# Altium integrated library 100uF25VAEC.IntLib: 1 symbol
Pins are listed as number, name and electrical type; pins without a type are passive.

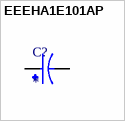
[diagram p0: symbol EEEHA1E101AP]

## EEEHA1E101AP
designator C?
100ÂµF 25V Aluminum Electrolytic Capacitors Radial, Can - SMD 1000 Hrs @ 105Â°C; MF: Panasonic; MP: EEE-HA1E101AP; SnapEDA_Link: https://www.snapeda.com/parts/EEE-HA1E101AP/Panasonic/view-part/?ref=snap; Availability: In Stock; Purchase-URL: https://pricing.snapeda.com/search/part/EEE-HA1E101AP/?ref=eda; Check_prices: https://www.snapeda.com/parts/EEE-HA1E101AP/Panasonic/view-part/?ref=eda; Value: *; Package: RADIAL-2 Panasonic; Price: None
footprint CAP_EEEHA1E101AP
pins: 1, 2